# Altium footprint library UKU205.PcbLib: 41 footprints (part 1 of 3)
Each footprint in its own frame and in the unit in brackets; x right, y up, seen from the top. Pads: shape width x height; smd on the part's side, far side on the other; paste and mask are expansions set on the pad; w line width, h text height; cw(c..) or ccw(c..) is an arc to the next point about the centre after c.
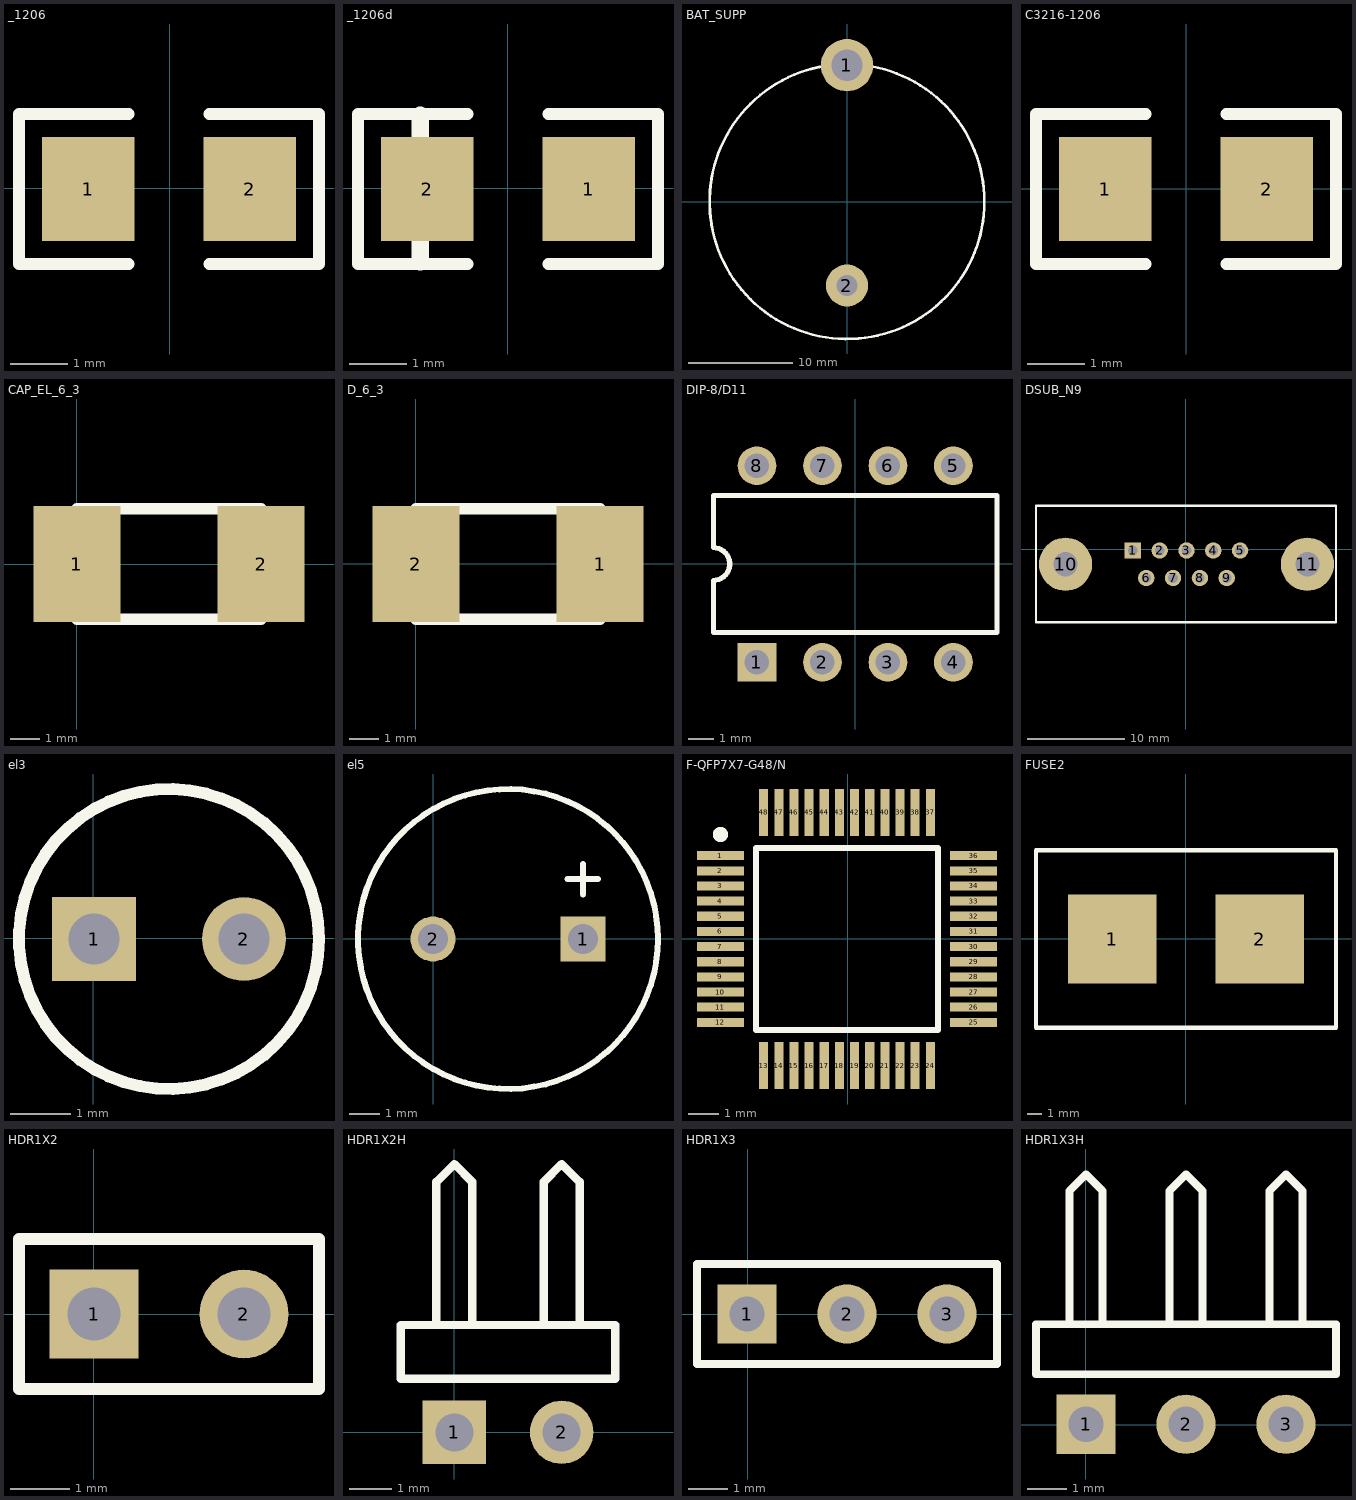
[diagram p0: the footprints below, top view; thin cyan lines are the x and y axes]

## _1206 [mm]
pads (2):
  rect 1.6x1.8 smd: 1(-1.409,-0.014) 2(1.391,-0.014)
Top Overlay:
  lines w0.2: -0.709,-1.314 -2.609,-1.314 -2.609,1.286 -0.709,1.286 ; 0.691,-1.314 2.591,-1.314 2.591,1.286 0.691,1.286

## _1206d [mm]
pads (2):
  rect 1.6x1.8 smd: 1(1.403,-0.017) 2(-1.397,-0.017)
Top Overlay:
  lines w0.2: -0.697,-1.317 -2.597,-1.317 -2.597,1.283 -0.697,1.283 ; 0.703,-1.317 2.603,-1.317 2.603,1.283 0.703,1.283
  lines w0.3: -1.516,-1.278 -1.516,1.262

## BAT_SUPP [mm]
pads (2):
  round 5 hole 3: 1(-0.009,12.999)
  round 4 hole 2: 2(-0.009,-8.001)
Top Overlay:
  circle w0.254: c-0.009,-0.001 r13.1

## C3216-1206 [mm]
pads (2):
  rect 1.6x1.8 smd: 1(-1.405,-0.006) 2(1.395,-0.006)
Top Overlay:
  lines w0.2: -0.705,-1.306 -2.605,-1.306 -2.605,1.294 -0.705,1.294 ; 0.695,-1.306 2.595,-1.306 2.595,1.294 0.695,1.294

## CAP_EL_6_3 [mm]
pads (2):
  rect 3x4 smd: 1(0.001,0.015) 2(6.351,0.015)
Top Overlay:
  lines w0.4: 1.271,-1.89 1.271,1.92 ; 0.001,-1.89 6.351,-1.89 6.351,1.92 0.001,1.92 0.001,0.015 0.001,-1.89

## D_6_3 [mm]
pads (2):
  rect 3x4 smd: 1(6.351,-0.002) 2(0.001,-0.002)
Top Overlay:
  lines w0.4: 1.271,-1.907 1.271,1.903 ; 0.001,-1.907 0.001,-0.002 0.001,1.903 6.351,1.903 6.351,-1.907 0.001,-1.907

## DIP-8/D11 [mm]
pads (8):
  rect 1.5x1.5 hole 0.95: 1(-3.813,-3.811)
  round 1.5 hole 0.95: 2(-1.273,-3.811) 3(1.267,-3.811) 4(3.807,-3.811) 5(3.807,3.809) 6(1.267,3.809) 7(-1.273,3.809) 8(-3.813,3.809)
Top Overlay:
  lines w0.2: -5.503,-2.651 -5.503,-0.636 ccw(c-5.503,-0.001) -5.503,0.634 -5.503,2.649 5.497,2.649 5.497,-2.651 -5.503,-2.651

## DSUB_N9 [mm]
pads (11):
  rect 1.69x1.69 hole 1: 1(-5.489,-0.113)
  round 1.69 hole 1: 2(-2.719,-0.113) 3(0.051,-0.113) 4(2.821,-0.113) 5(5.591,-0.113) 6(-4.104,-2.953) 7(-1.334,-2.953) 8(1.436,-2.953) 9(4.206,-2.953)
  round 5.5 hole 2.5: 10(-12.444,-1.533) 11(12.546,-1.533)
Top Overlay:
  lines w0.254: -15.498,-7.509 -15.498,4.491 0.002,4.491 15.502,4.491 15.502,-7.509 15.402,-7.509 -15.498,-7.509

## el3 [mm]
pads (2):
  rect 1.4x1.4 hole 0.85: 1(0.012,-0.009)
  round 1.4 hole 0.85: 2(2.512,-0.009)
Top Overlay:
  circle w0.2: c1.262,-0.009 r2.5
  lines w0.3: -0.388,-0.009 0.412,-0.009 ; 0.012,-0.409 0.012,0.391

## el5 [mm]
pads (2):
  rect 1.5x1.5 hole 1: 1(4.99,-0.003)
  round 1.5 hole 1: 2(-0.01,-0.003)
Top Overlay:
  circle w0.2: c2.49,-0.003 r5
  lines w0.2: 4.474,1.997 5.49,1.997 ; 4.99,1.481 4.99,2.497

## F-QFP7X7-G48/N [mm]
pads (48):
  rect 1.55x0.3 smd: 1(-4.2,2.738) 2(-4.2,2.238) 3(-4.2,1.738) 4(-4.2,1.238) 5(-4.2,0.738) 6(-4.2,0.238) 7(-4.2,-0.262) 8(-4.2,-0.762) 9(-4.2,-1.262) 10(-4.2,-1.762) 11(-4.2,-2.262) 12(-4.2,-2.762) 25(4.15,-2.762) 26(4.15,-2.262) 27(4.15,-1.762) 28(4.15,-1.262) 29(4.15,-0.762) 30(4.15,-0.262) 31(4.15,0.238) 32(4.15,0.738) 33(4.15,1.238) 34(4.15,1.738) 35(4.15,2.238) 36(4.15,2.738)
  rect 0.3x1.55 smd: 13(-2.775,-4.187) 14(-2.275,-4.187) 15(-1.775,-4.187) 16(-1.275,-4.187) 17(-0.775,-4.187) 18(-0.275,-4.187) 19(0.225,-4.187) 20(0.725,-4.187) 21(1.225,-4.187) 22(1.725,-4.187) 23(2.225,-4.187) 24(2.725,-4.187) 37(2.725,4.163) 38(2.225,4.163) 39(1.725,4.163) 40(1.225,4.163) 41(0.725,4.163) 42(0.225,4.163) 43(-0.275,4.163) 44(-0.775,4.163) 45(-1.275,4.163) 46(-1.775,4.163) 47(-2.275,4.163) 48(-2.775,4.163)
Top Overlay:
  circle w0.25: c-4.2,3.438 r0.125
  lines w0.2: -3.025,-3.012 -3.025,2.988 2.975,2.988 2.975,-3.012 -3.025,-3.012

## FUSE2 [mm]
pads (2):
  rect 6x6 smd: 1(-4.999,-0.008) 2(5.001,-0.008)
Top Overlay:
  lines w0.3: -10.159,-6.008 -10.159,5.992 10.161,5.992 10.16,-6.008 -10.159,-6.008

## HDR1X2 [mm]
pads (2):
  rect 1.5x1.5 hole 0.9: 1(0,0.006)
  round 1.5 hole 0.9: 2(2.54,0.006)
Top Overlay:
  lines w0.2: -1.27,-1.264 -1.27,1.276 3.81,1.276 3.81,-1.264 -1.27,-1.264

## HDR1X2H [mm]
pads (2):
  rect 1.5x1.5 hole 0.9: 1(0.008,-0.006)
  round 1.5 hole 0.9: 2(2.548,-0.006)
Top Overlay:
  lines w0.2: -0.416,2.534 -0.416,5.92 0.008,6.344 0.431,5.92 0.431,2.534 ; 2.124,2.534 2.124,5.92 2.548,6.344 2.971,5.92 2.971,2.534 ; -1.262,1.264 3.818,1.264 3.818,2.534 -1.262,2.534 -1.262,1.264

## HDR1X3 [mm]
pads (3):
  rect 1.5x1.5 hole 0.9: 1(-0.021,0.011)
  round 1.5 hole 0.9: 2(2.519,0.011) 3(5.059,0.011)
Top Overlay:
  lines w0.2: -1.291,-1.259 6.329,-1.259 6.329,1.281 -1.291,1.281 -1.291,-1.259

## HDR1X3H [mm]
pads (3):
  rect 1.5x1.5 hole 0.9: 1(0.008,0.013)
  round 1.5 hole 0.9: 2(2.548,0.013) 3(5.088,0.013)
Top Overlay:
  lines w0.2: -0.416,2.553 -0.416,5.939 0.008,6.363 0.431,5.939 0.431,2.553 ; 2.124,2.553 2.124,5.939 2.548,6.363 2.971,5.939 2.971,2.553 ; 4.664,2.553 4.664,5.939 5.088,6.363 5.511,5.939 5.511,2.553 ; -1.262,1.283 6.358,1.283 6.358,2.553 -1.262,2.553 -1.262,1.283